# EAGLE library part PCM5102A_MODULE (library PCM5102A_Module)
module PCM5102A (small purple package)
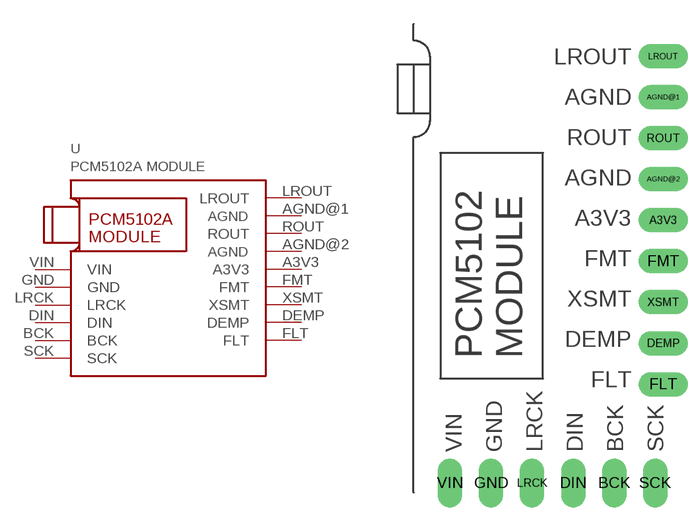
[diagram p0: symbol with the pads of PCM5102A_MODULE; footprint PCM5102A_MODULE]

Designator prefix -

## PCM5102A_MODULE  [PCM5102A_MODULE]
A3V3  A3V3  pwr
AGND@1  AGND  pwr
AGND@2  AGND  pwr
BCK  BCK  in
DEMP  DEMP  in
DIN  DIN  in
FLT  FLT  in
FMT  FMT  in
GND  GND  pwr
LRCK  LRCK  out
LROUT  LROUT  out
ROUT  ROUT  out
SCK  SCK  in
VIN  VIN  pwr
XSMT  XSMT  in

## Footprint PCM5102A_MODULE (pad centres in mm)
drill 1.016 long: A3V3 15.07,17.43; AGND@1 15.07,25.05; AGND@2 15.07,19.97; BCK 12.03,1.15; DEMP 15.07,9.81; DIN 9.49,1.15; FLT 15.07,7.27; FMT 15.07,14.89; GND 4.41,1.15; LRCK 6.95,1.15; LROUT 15.07,27.59; ROUT 15.07,22.51; SCK 14.57,1.15; VIN 1.87,1.15; XSMT 15.07,12.35